# Altium footprint library VALIX.PcbLib: 48 footprints (part 1 of 3)
Each footprint in its own frame and in the unit in brackets; x right, y up, seen from the top. Pads: shape width x height; smd on the part's side, far side on the other; paste and mask are expansions set on the pad; w line width, h text height; cw(c..) or ccw(c..) is an arc to the next point about the centre after c.
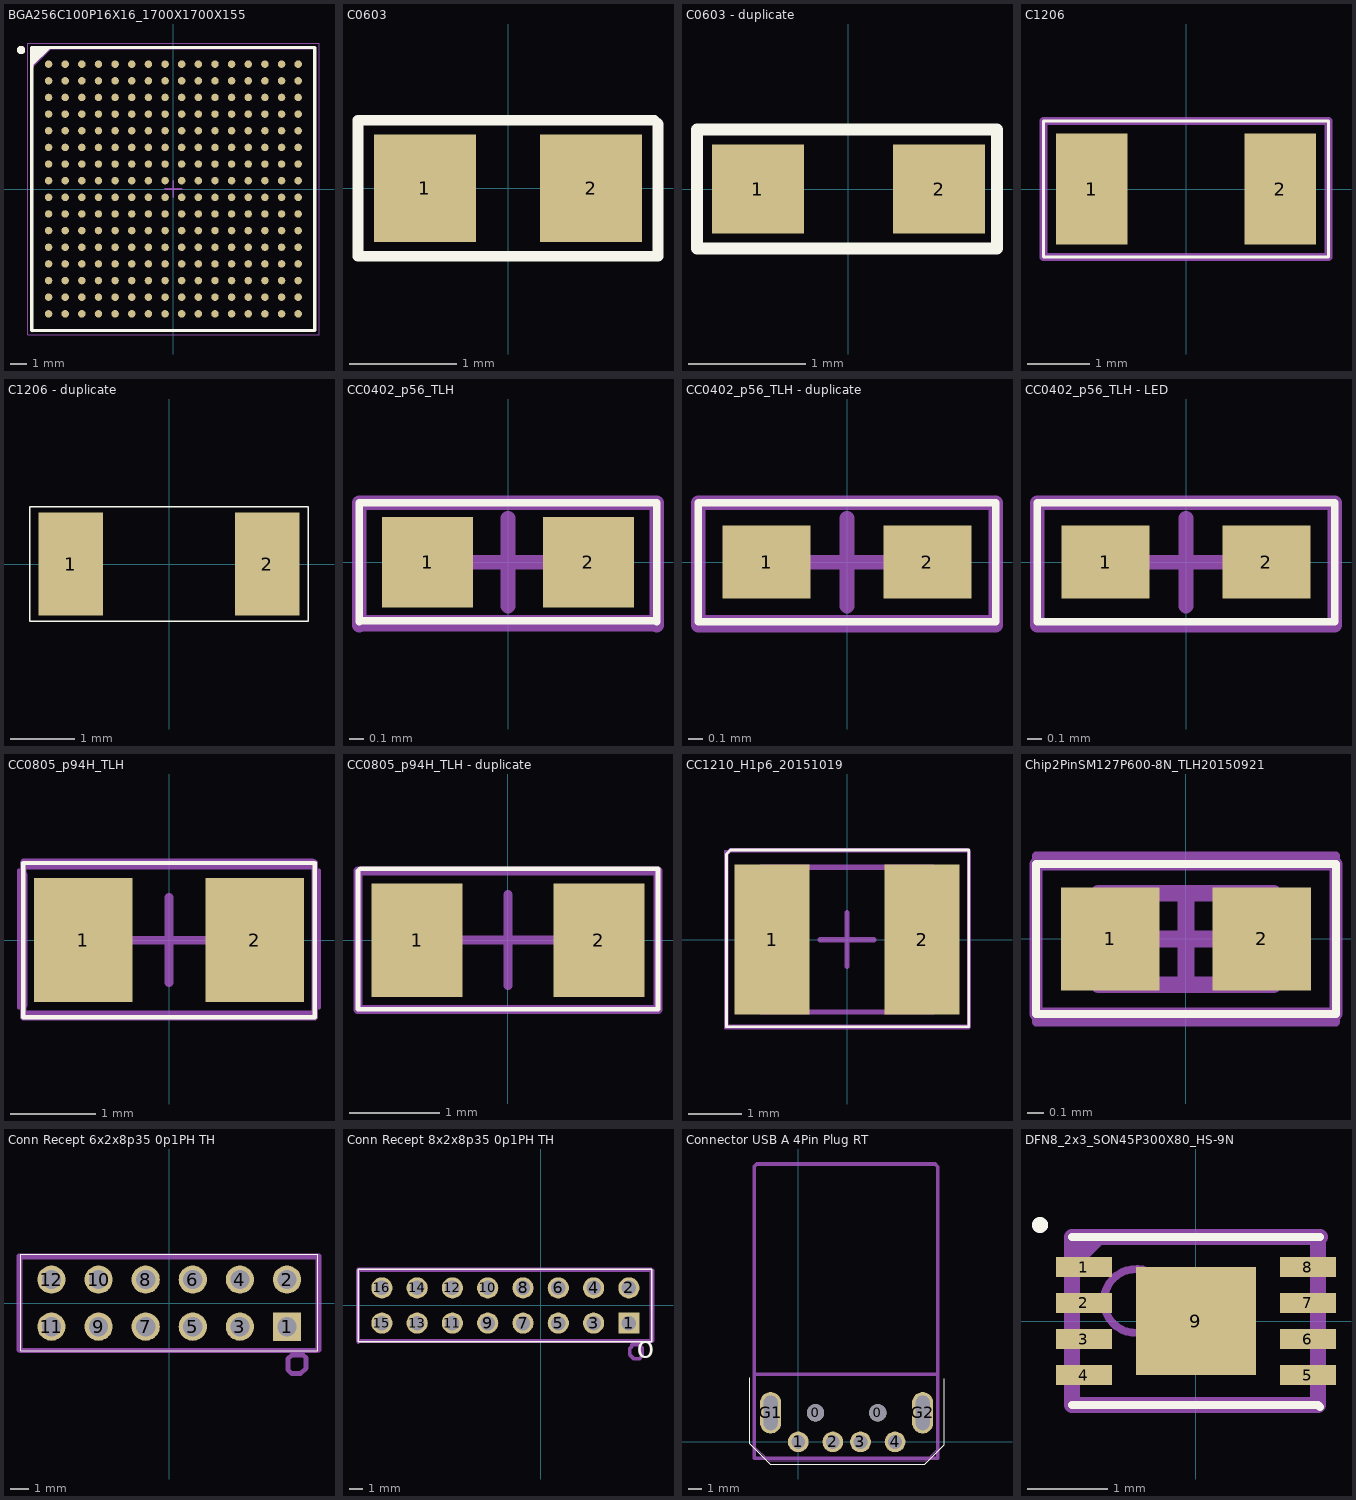
[diagram p0: the footprints below, top view; thin cyan lines are the x and y axes]

## BGA256C100P16X16_1700X1700X155 [mm] "BGA, 256-Leads, Body 17.00x17.00mmx1.55mm, Pitch 1.00mm"
height 1.55
pads (256):
  round 0.45 smd: A1(-7.5,7.5) A2(-6.5,7.5) A3(-5.5,7.5) A4(-4.5,7.5) A5(-3.5,7.5) A6(-2.5,7.5) A7(-1.5,7.5) A8(-0.5,7.5) A9(0.5,7.5) A10(1.5,7.5) A11(2.5,7.5) A12(3.5,7.5) A13(4.5,7.5) A14(5.5,7.5) A15(6.5,7.5) A16(7.5,7.5) B1(-7.5,6.5) B2(-6.5,6.5) B3(-5.5,6.5) B4(-4.5,6.5) B5(-3.5,6.5) B6(-2.5,6.5) B7(-1.5,6.5) B8(-0.5,6.5) B9(0.5,6.5) B10(1.5,6.5) B11(2.5,6.5) B12(3.5,6.5) B13(4.5,6.5) B14(5.5,6.5) B15(6.5,6.5) B16(7.5,6.5) C1(-7.5,5.5) C2(-6.5,5.5) C3(-5.5,5.5) C4(-4.5,5.5) C5(-3.5,5.5) C6(-2.5,5.5) C7(-1.5,5.5) C8(-0.5,5.5) C9(0.5,5.5) C10(1.5,5.5) C11(2.5,5.5) C12(3.5,5.5) C13(4.5,5.5) C14(5.5,5.5) C15(6.5,5.5) C16(7.5,5.5) D1(-7.5,4.5) D2(-6.5,4.5) D3(-5.5,4.5) D4(-4.5,4.5) D5(-3.5,4.5) D6(-2.5,4.5) D7(-1.5,4.5) D8(-0.5,4.5) D9(0.5,4.5) D10(1.5,4.5) D11(2.5,4.5) D12(3.5,4.5) D13(4.5,4.5) D14(5.5,4.5) D15(6.5,4.5) D16(7.5,4.5) E1(-7.5,3.5) E2(-6.5,3.5) E3(-5.5,3.5) E4(-4.5,3.5) E5(-3.5,3.5) E6(-2.5,3.5) E7(-1.5,3.5) E8(-0.5,3.5) E9(0.5,3.5) E10(1.5,3.5) E11(2.5,3.5) E12(3.5,3.5) E13(4.5,3.5) E14(5.5,3.5) E15(6.5,3.5) E16(7.5,3.5) F1(-7.5,2.5) F2(-6.5,2.5) F3(-5.5,2.5) F4(-4.5,2.5) F5(-3.5,2.5) F6(-2.5,2.5) F7(-1.5,2.5) F8(-0.5,2.5) F9(0.5,2.5) F10(1.5,2.5) F11(2.5,2.5) F12(3.5,2.5) F13(4.5,2.5) F14(5.5,2.5) F15(6.5,2.5) F16(7.5,2.5) G1(-7.5,1.5) G2(-6.5,1.5) G3(-5.5,1.5) G4(-4.5,1.5) G5(-3.5,1.5) G6(-2.5,1.5) G7(-1.5,1.5) G8(-0.5,1.5) G9(0.5,1.5) G10(1.5,1.5) G11(2.5,1.5) G12(3.5,1.5) G13(4.5,1.5) G14(5.5,1.5) G15(6.5,1.5) G16(7.5,1.5) H1(-7.5,0.5) H2(-6.5,0.5) H3(-5.5,0.5) H4(-4.5,0.5) H5(-3.5,0.5) H6(-2.5,0.5) H7(-1.5,0.5) H8(-0.5,0.5) H9(0.5,0.5) H10(1.5,0.5) H11(2.5,0.5) H12(3.5,0.5) H13(4.5,0.5) H14(5.5,0.5) H15(6.5,0.5) H16(7.5,0.5) J1(-7.5,-0.5) J2(-6.5,-0.5) J3(-5.5,-0.5) J4(-4.5,-0.5) J5(-3.5,-0.5) J6(-2.5,-0.5) J7(-1.5,-0.5) J8(-0.5,-0.5) J9(0.5,-0.5) J10(1.5,-0.5) J11(2.5,-0.5) J12(3.5,-0.5) J13(4.5,-0.5) J14(5.5,-0.5) J15(6.5,-0.5) J16(7.5,-0.5) K1(-7.5,-1.5) K2(-6.5,-1.5) K3(-5.5,-1.5) K4(-4.5,-1.5) K5(-3.5,-1.5) K6(-2.5,-1.5) K7(-1.5,-1.5) K8(-0.5,-1.5) K9(0.5,-1.5) K10(1.5,-1.5) K11(2.5,-1.5) K12(3.5,-1.5) K13(4.5,-1.5) K14(5.5,-1.5) K15(6.5,-1.5) K16(7.5,-1.5) L1(-7.5,-2.5) L2(-6.5,-2.5) L3(-5.5,-2.5) L4(-4.5,-2.5) L5(-3.5,-2.5) L6(-2.5,-2.5) L7(-1.5,-2.5) L8(-0.5,-2.5) L9(0.5,-2.5) L10(1.5,-2.5) L11(2.5,-2.5) L12(3.5,-2.5) L13(4.5,-2.5) L14(5.5,-2.5) L15(6.5,-2.5) L16(7.5,-2.5) M1(-7.5,-3.5) M2(-6.5,-3.5) M3(-5.5,-3.5) M4(-4.5,-3.5) M5(-3.5,-3.5) M6(-2.5,-3.5) M7(-1.5,-3.5) M8(-0.5,-3.5) M9(0.5,-3.5) M10(1.5,-3.5) M11(2.5,-3.5) M12(3.5,-3.5) M13(4.5,-3.5) M14(5.5,-3.5) M15(6.5,-3.5) M16(7.5,-3.5) N1(-7.5,-4.5) N2(-6.5,-4.5) N3(-5.5,-4.5) N4(-4.5,-4.5) N5(-3.5,-4.5) N6(-2.5,-4.5) N7(-1.5,-4.5) N8(-0.5,-4.5) N9(0.5,-4.5) N10(1.5,-4.5) N11(2.5,-4.5) N12(3.5,-4.5) N13(4.5,-4.5) N14(5.5,-4.5) N15(6.5,-4.5) N16(7.5,-4.5) P1(-7.5,-5.5) P2(-6.5,-5.5) P3(-5.5,-5.5) P4(-4.5,-5.5) P5(-3.5,-5.5) P6(-2.5,-5.5) P7(-1.5,-5.5) P8(-0.5,-5.5) P9(0.5,-5.5) P10(1.5,-5.5) P11(2.5,-5.5) P12(3.5,-5.5) P13(4.5,-5.5) P14(5.5,-5.5) P15(6.5,-5.5) P16(7.5,-5.5) R1(-7.5,-6.5) R2(-6.5,-6.5) R3(-5.5,-6.5) R4(-4.5,-6.5) R5(-3.5,-6.5) R6(-2.5,-6.5) R7(-1.5,-6.5) R8(-0.5,-6.5) R9(0.5,-6.5) R10(1.5,-6.5) R11(2.5,-6.5) R12(3.5,-6.5) R13(4.5,-6.5) R14(5.5,-6.5) R15(6.5,-6.5) R16(7.5,-6.5) T1(-7.5,-7.5) T2(-6.5,-7.5) T3(-5.5,-7.5) T4(-4.5,-7.5) T5(-3.5,-7.5) T6(-2.5,-7.5) T7(-1.5,-7.5) T8(-0.5,-7.5) T9(0.5,-7.5) T10(1.5,-7.5) T11(2.5,-7.5) T12(3.5,-7.5) T13(4.5,-7.5) T14(5.5,-7.5) T15(6.5,-7.5) T16(7.5,-7.5)
Top Overlay:
  circle w0.25: c-9.15,8.35 r0.125
  region: -7.5,8.5 -8.5,7.5 -8.5,8.5
  lines w0.2: -8.5,7.5 -7.5,8.5 ; -8.5,-8.5 -8.5,8.5 8.5,8.5 8.5,-8.5 -8.5,-8.5
Assy Top:
  lines w0.076: -8.45,8.45 8.425,8.45 8.475,8.4 8.45,8.4
  lines w0.127: -7.375,8.45 -8.45,7.375 -8.45,8.45 ; -8.45,8.45 8.425,8.45 8.475,8.4 8.475,-8.5 -8.45,-8.5 -8.5,-8.55 -8.5,8.4 -8.45,8.45
  text ".Designator" at -2.8,0.95 h1.27
Mech 13 3D:
  lines w0.1: -8.5,-8.5 -8.5,8.5 8.5,8.5 8.5,-8.5 -8.5,-8.5
Mech 15 Keepout:
  lines w0.05: -8.75,-8.75 -8.75,8.75 8.75,8.75 8.75,-8.75 -8.75,-8.75
  lines w0.1: -0.5,0 0.5,0 ; 0,-0.5 0,0.5
3D body: height 1.55, standoff 0.3, extent -8.5,-8.5 8.5,8.5

## C0603 [mm]
pads (2):
  rect 0.95x1 smd: 1(-0.775,0) 2(0.775,0)
Top Overlay:
  lines w0.1: -1.4,-0.635 1.4,-0.635 1.4,0.6 1.365,0.635 0.699,0.635 -0.699,0.635 -1.4,0.635 -1.4,-0.635
Assy Bottom:
  lines w0.05: -1.4,0.625 -1.4,-0.65 1.4,-0.65 1.4,0.625 -1.4,0.625 ; -1.4,0.625 -1.4,0.625
Assy Top:
  text ".Designator" at -1.25,-0.225 h0.51
3D body "MCT 0603.stp": height 0.45, standoff 0, extent -0.775,-0.425 0.775,0.425

## C0603 - duplicate [mil]
pads (2):
  rect 31x30 smd: 1(-30.5,0) 2(30.5,0)
Top Overlay:
  lines w3.94: -51,20 -51,-5 -51,-20 50,-20 50,20 27.5,20 -27.5,20 -50,20

## C1206 [mm]
pads (2):
  rect 1.15x1.8 smd: 1(-1.524,0) 2(1.524,0)
Top Overlay:
  lines w0.05: -2.3,-1.1 -2.3,1.1 2.3,1.1 2.3,-1.1 -2.3,-1.1
Assy Top:
  lines w0.127: -2.3,-1.1 2.3,-1.1 2.3,1.1 -2.3,1.1 -2.3,-1.1
  text ".Designator" at -2,-0.275 h0.76
3D body "MCA 1206.stp": height 0.55, standoff 0, extent -1.6,-0.8 1.6,0.8

## C1206 - duplicate [mm]
pads (2):
  rect 1x1.6 smd: 1(-1.524,0) 2(1.524,0)
Top Overlay:
  lines w0.025: 1.505,-0.889 1.913,-0.889 2.159,-0.889 2.159,0.889 1.089,0.889 -1.05,0.889 -2.159,0.889 -2.159,-0.889 -0.489,-0.889 0.489,-0.889 1.524,-0.889
3D body "MCA 1206.stp": height 0.55, standoff 0, extent -1.625,-0.736 1.575,0.864

## CC0402_p56_TLH [mm] "Chip Capacitor, 2-Leads, Body 1.0x0.50x0.56mm, IPC Low Density"
height 0.56
pads (2):
  rect 0.62x0.62 smd: 1(-0.55,0) 2(0.55,0)
Top Overlay:
  lines w0.05: -1.016,-0.406 -1.016,0.406 1.016,0.406 1.016,-0.406 ; -1.016,-0.4 1.016,-0.4
Assy Top:
  lines w0.076: -1.025,-0.4 -1.025,0.4 1.025,0.4 1.025,-0.4 -1.025,-0.4
  text ".Designator" at -0.95,-0.2 h0.38
Mech 13 3D:
  lines w0.1: -1.016,-0.432 -1.016,0.406 1.016,0.406 1.016,-0.432 ; -1.016,-0.425 1.016,-0.425
Mech 15 Keepout:
  lines w0.05: -1.016,-0.406 -1.016,0.406 1.016,0.406 1.016,-0.406 ; -1.016,-0.4 1.016,-0.4
  lines w0.1: -0.3,0 0.3,0 ; 0,-0.3 0,0.3
3D body: height 0.56, standoff 0, extent -0.3,-0.3 0.3,0.3
3D body: height 0.56, standoff 0, extent -0.55,-0.3 -0.3,0.3
3D body: height 0.56, standoff 0, extent 0.3,-0.3 0.55,0.3

## CC0402_p56_TLH - duplicate [mm] "Chip Capacitor, 2-Leads, Body 1.0x0.50x0.56mm, IPC Low Density"
height 0.56
pads (2):
  rect 0.6x0.5 smd: 1(-0.55,0) 2(0.55,0)
Top Overlay:
  lines w0.05: -1.016,-0.406 1.016,-0.406 1.016,0.406 -1.016,0.406 -1.016,-0.406
Assy Top:
  lines w0.076: -1.025,-0.4 1.025,-0.4 1.025,0.4 -1.025,0.4 -1.025,-0.4
  text ".Designator" at -0.85,-0.25 h0.38
Mech 13 3D:
  lines w0.1: -1.016,-0.432 -1.016,0.406 1.016,0.406 1.016,-0.432 -1.016,-0.432
Mech 15 Keepout:
  lines w0.05: -1.016,-0.406 1.016,-0.406 1.016,0.406 -1.016,0.406 -1.016,-0.406
  lines w0.1: -0.3,0 0.3,0 ; 0,-0.3 0,0.3
3D body: height 0.56, standoff 0, extent 0.3,-0.3 0.55,0.3
3D body: height 0.56, standoff 0, extent -0.55,-0.3 -0.3,0.3
3D body: height 0.56, standoff 0, extent -0.3,-0.3 0.3,0.3

## CC0402_p56_TLH - LED [mm] "LED, 2-Leads, Body 1.0x0.50x0.56mm, IPC Low Density"
height 0.56
pads (2):
  rect 0.6x0.5 smd: 1(-0.55,0) 2(0.55,0)
Top Overlay:
  lines w0.05: -1.016,-0.406 -1.016,0.406 1.016,0.406 1.016,-0.406 -1.016,-0.406
Assy Top:
  lines w0.076: -1.025,-0.425 1,-0.425 1.025,-0.4 1.025,0.4 -1.025,0.4 -1.025,-0.425
  text ".Designator" at -0.85,-0.25 h0.51
Mech 13 3D:
  lines w0.1: -1.016,-0.432 1.016,-0.432 1.016,0.406 -1.016,0.406 -1.016,-0.432
Mech 15 Keepout:
  lines w0.05: -1.016,-0.406 -1.016,0.406 1.016,0.406 1.016,-0.406 -1.016,-0.406
  lines w0.1: -0.3,0 0.3,0 ; 0,-0.3 0,0.3
3D body "ChipLedWith-Green.stp": height 0.16, standoff 0, extent -0.502,-0.252 0.502,0.252

## CC0805_p94H_TLH [mm] "Cap 0805 0p94 high"
height 0.94
pads (2):
  rect 1.15x1.45 smd: 1(-1,0) 2(1,0)
Top Overlay:
  lines w0.05: -1.7,-0.9 1.7,-0.9 1.7,0.9 -1.7,0.9 -1.7,-0.9
Assy Top:
  lines w0.076: -1.7,-0.9 -1.7,0.9 1.7,0.9 1.7,-0.9 -1.7,-0.9
  text ".Designator" at -1.425,-0.2 h0.51
Mech 13 3D:
  lines w0.1: -1.7,-0.762 -1.7,0.762 ; -1.651,-0.875 1.651,-0.875 ; -1.651,0.875 1.651,0.875 ; 1.725,-0.762 1.725,0.762
Mech 15 Keepout:
  lines w0.05: -1.751,-0.787 -1.751,0.813 ; -1.702,0.925 1.676,0.925 ; -1.4,-0.9 1.676,-0.9 ; 1.751,-0.787 1.751,0.813
  lines w0.1: -0.5,0 0.5,0 ; 0,-0.5 0,0.5
3D body: height 0.94, standoff 0, extent 0.605,-0.725 1.105,0.725
3D body: height 0.94, standoff 0, extent -1.105,-0.725 -0.605,0.725
3D body: height 0.94, standoff 0, extent -0.605,-0.725 0.605,0.725

## CC0805_p94H_TLH - duplicate [mm] "Cap 0805 0p94 high"
height 0.94
pads (2):
  rect 1x1.25 smd: 1(-1,0) 2(1,0)
Top Overlay:
  lines w0.05: -1.651,-0.762 1.651,-0.762 1.651,0.787 -1.626,0.787 -1.651,0.762 -1.651,-0.762
Mech 13 3D:
  lines w0.1: -1.651,-0.762 -1.651,0.762 1.651,0.762 1.651,-0.762 -1.651,-0.762
Mech 15 Keepout:
  lines w0.05: -1.651,-0.762 -1.651,0.787 1.651,0.787 1.651,-0.762 -1.651,-0.762
  lines w0.1: -0.5,0 0.5,0 ; 0,-0.5 0,0.5
3D body: height 0.94, standoff 0, extent -0.605,-0.725 0.605,0.725
3D body: height 0.94, standoff 0, extent -1.105,-0.725 -0.605,0.725
3D body: height 0.94, standoff 0, extent 0.605,-0.725 1.105,0.725

## CC1210_H1p6_20151019 [mm] "CC1210H1.6 Chip2PinSM127P600-8N"
height 1.7
pads (2):
  rect 1.4x2.8 smd: 1(-1.4,0) 2(1.4,0)
Top Overlay:
  lines w0.05: 2.275,-1.625 -2.25,-1.625 -2.25,1.6 -2.231,1.619 -2.194,1.656 -2.175,1.675 2.275,1.675 2.275,-1.625 ; 2.275,-1.625 2.275,-1.625
Assy Top:
  lines w0.076: -2.25,-1.625 -2.25,1.6 -2.175,1.675 2.25,1.675 2.275,1.65 2.275,-1.625 -2.25,-1.625
  text ".Designator" at -1.8,-0.075 h0.64
Mech 13 3D:
  lines w0.1: -1.6,-1.35 1.6,-1.35 1.6,1.35 -1.6,1.35 -1.6,-1.35
Mech 15 Keepout:
  lines w0.05: -2.275,-1.65 2.275,-1.65 2.275,1.65 -2.275,1.65 -2.275,-1.65
  lines w0.1: -0.5,0 0.5,0 ; 0,-0.5 0,0.5
3D body: height 1.7, standoff 0, extent 1.1,-1.35 1.6,1.35
3D body: height 1.7, standoff 0, extent -1.6,-1.35 -1.1,1.35
3D body: height 1.7, standoff 0, extent -1.1,-1.35 1.1,1.35

## Chip2PinSM127P600-8N_TLH20150921 [mm] "Chip 0402 inductor"
height 0.55
pads (2):
  rect 0.59x0.62 smd: 1(-0.455,0) 2(0.455,0)
Top Overlay:
  lines w0.05: -0.9,-0.45 0.9,-0.45 0.9,0.45 -0.9,0.45 -0.9,-0.45
Assy Top:
  lines w0.076: -0.9,-0.45 -0.9,0.45 0.9,0.45 0.9,-0.45 -0.9,-0.45
  text ".Designator" at -0.775,-0.1 h0.38
Mech 13 3D:
  lines w0.1: -0.525,-0.275 -0.525,0.275 0.525,0.275 0.525,-0.275 -0.525,-0.275
Mech 15 Keepout:
  lines w0.05: -0.9,-0.5 -0.9,0.5 0.9,0.5 0.9,-0.5 -0.9,-0.5
  lines w0.1: -0.275,0 0.275,0 ; 0,-0.275 0,0.275
3D body: height 0.55, standoff 0, extent -0.275,-0.275 0.275,0.275
3D body: height 0.55, standoff 0, extent -0.525,-0.275 -0.275,0.275
3D body: height 0.55, standoff 0, extent 0.275,-0.275 0.525,0.275

## Conn Recept 6x2x8p35 0p1PH TH [mil] "Conn Recept 6x2x8p35 0p1PH TH Samtec SSW"
height 335.04
pads (12):
  rect 60x60 hole 40.94: 1(250,-50)
  round 60 hole 40.94: 2(250,50) 3(150,-50) 4(150,50) 5(50,-50) 6(50,50) 7(-50,-50) 8(-50,50) 9(-150,-50) 10(-150,50) 11(-250,-50) 12(-250,50)
Top Overlay:
  lines w1.97: -314.96,-101.38 314.96,-101.38 314.96,103.35 -314.96,103.35 -314.96,-101.38
Mechanical 1:
  lines w10: -318.9,-100 317.91,-100 317.91,100 -318.9,100 -318.9,-100
  text "o" at 250,-150 h60
Assy Top:
  lines w10: 280.51,-110.24 259.84,-110.24 251.97,-118.11 251.97,-141.73 259.84,-149.61 278.54,-149.61 290.35,-137.8 290.35,-116.14 284.45,-110.24 ; -317.91,97.44 314.96,97.44 314.96,-98.43 312.99,-100.39 -315.94,-100.39 -316.93,-99.41 -316.93,96.46 -317.91,97.44
  text ".Designator" at -256.89,-5.91 h50
3D body "SSW-106-01-X-D.step": height 335, standoff -104, extent -310,-97.49 310,97.51

## Conn Recept 8x2x8p35 0p1PH TH [mil] "Conn Recept 8x2x8p35 0p1PH TH Samtec SSW"
height 335.04
pads (16):
  rect 60x60 hole 40.94: 1(250,-50)
  round 60 hole 40.94: 2(250,50) 3(150,-50) 4(150,50) 5(50,-50) 6(50,50) 7(-50,-50) 8(-50,50) 9(-150,-50) 10(-150,50) 11(-250,-50) 12(-250,50) 13(-350,-50) 14(-350,50) 15(-450,-50) 16(-450,50)
Top Overlay:
  lines w3.94: -516.73,-103.35 313.98,-103.35 314.96,-102.36 314.96,103.35 -516.73,103.35 -516.73,-103.35
  text "o" at 272.64,-147.64 h60
Mechanical 1:
  lines w10: -517.72,-100 -517.72,100 317.91,100 317.91,-100 -517.72,-100
  text "o" at 250,-150 h60
Assy Top:
  lines w10: 258.86,-116.14 251.97,-123.03 251.97,-138.78 264.76,-151.57 279.53,-151.57 288.39,-142.72 288.39,-120.08 279.53,-111.22 258.86,-111.22 ; 281.5,-109.25 281.5,-108.27 ; -516.73,-104.33 -516.73,102.36 -515.75,103.35 312.01,103.35 313.98,101.38 313.98,-100.39 314.96,-101.38 -513.78,-101.38 -516.73,-104.33
  text ".Designator" at -408.46,-2.95 h50
3D body "SSW-108-01-X-D.step": height 335, standoff -104, extent -510,-97.5 310,97.5

## Connector USB A 4Pin Plug RT [mm] "Connector USB A 4Pin Plug RT"
height 4.5
pads (8):
  round 1.25 hole 1.25 unplated: 0(1.25,2.1) 0(5.75,2.1)
  round 1.5 hole 1: 1(0,0) 2(2.5,0) 3(4.5,0) 4(7,0)
  oval 1.524x3 hole 1 slot 2.5 at 90 deg: G1(-2,2.1) G2(9,2.1)
Top Overlay:
  lines w0.05: -3.5,4.65 -3.5,-0.125 -2.025,-1.6 9.15,-1.6 10.55,-0.2 10.55,4.575
Assy Top:
  lines w0.076: -3.175,4.9 -3.15,4.875 10.175,4.875 ; -3.175,6.5 -3.175,-0.3 -2.1,-1.375 9.225,-1.375 10.175,-0.425 10.175,6.475
  text ".Designator" at 9.325,-2.025 h1.27
Mech 13 3D:
  lines w0.254: -3.2,4.9 10.1,4.9 ; -3.2,4.9 -3.2,-0.1 -3.2,-1.2 10.1,-1.2 10.1,4.9 ; -3.2,4.9 -3.2,19.9 -3,20.1 9.9,20.1 10.1,19.9 10.1,4.9
3D body "480370001.stp": height 4.51, standoff -1.46, extent -2.794,-0.107 9.903,19.919

## DFN8_2x3_SON45P300X80_HS-9N [mm] "SON, 8-Leads, Body 2.00x3.00mm, Pitch 0.45mm, Thermal Pad 2.38x1.49mm, IPC Medium Density"
height 0.8
pads (9):
  rect 0.7x0.25 smd: 1(-1.4,0.675) 2(-1.4,0.225) 3(-1.4,-0.225) 4(-1.4,-0.675) 5(1.4,-0.675) 6(1.4,-0.225) 7(1.4,0.225) 8(1.4,0.675)
  rect 1.5x1.35 smd: 9(0,0)
Top Overlay:
  circle w0.1: c-1.95,1.2 r0.05
  lines w0.1: -1.55,-1.05 1.525,-1.05 1.55,-1.075 ; -1.55,1.05 1.55,1.05
Assy Top:
  lines w0.203: -1.55,0.725 -1.225,1.05 ; -1.55,-1.05 -1.55,1.05 1.55,1.05 1.525,1.025 1.525,-1.05 -1.55,-1.05
  text ".Designator" at -1.15,-0.1 h0.51
Mech 13 3D:
  circle w0.1: c-0.75,0.25 r0.4
  lines w0.1: -1.55,-1.05 1.55,-1.05 ; -1.55,1.05 1.55,1.05
Mech 15 Keepout:
  lines w0.1: -0.5,0 0.5,0 ; 0,-0.5 0,0.5
3D body: height 0.8, standoff 0.05, extent -1.55,-1.05 1.55,1.05